# Altium schematic symbol library SX126xMB2xAS_e588v01a.SchLib: 36 symbols
Pins are listed as number, name and electrical type; pins without a type are passive.

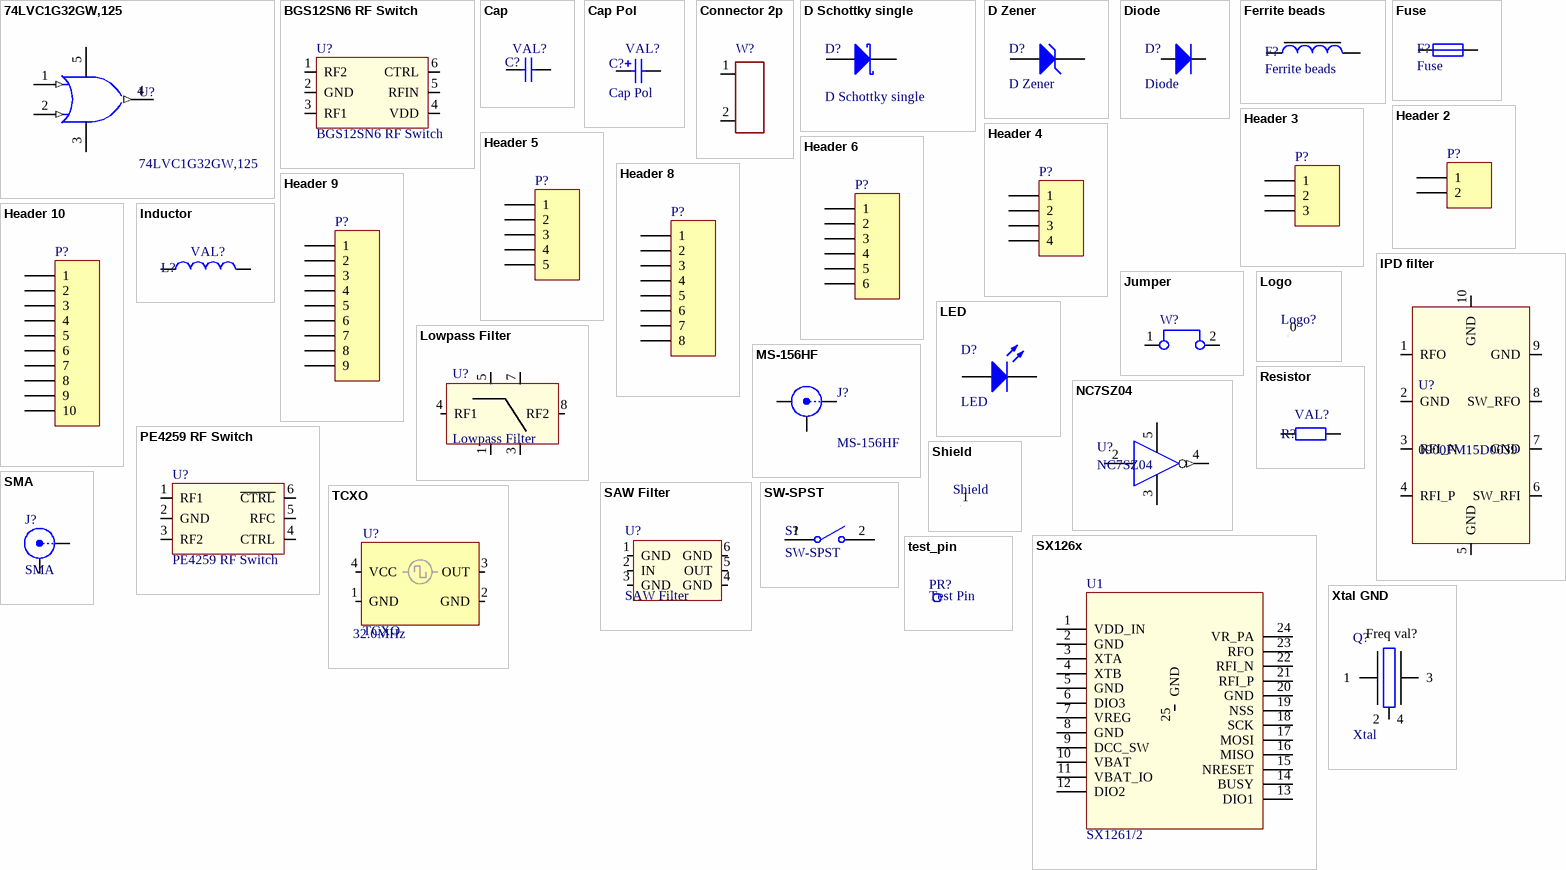
[diagram p0: symbols 74LVC1G32GW,125 to Xtal GND]

## 74LVC1G32GW,125
designator U?
T2-Input OR Gate, 5-Pin; Published: 17-Jul-2002; Publisher: Altium Limited
footprint SOT353-5 (SOT353, 5-Leads, Body 2x1.3mm, Pitch 0.65mm, Lead Span 2.1mm, IPC Medium Density)
pins: 1 B (in), 2 A (in), 3 GND (power), 4 Y (out), 5 VCC (power)

## BGS12SN6 RF Switch
designator U?
BGS12SN6 Infineon RF Switch; LatestRevisionDate: 03-Sep-2012 -  Semtech
footprint TSNP-6-2 (TSNP-6-2; Body 1.1 x 0.7 mm (LxW typ))
pins: 1 RF2, 2 GND, 3 RF1, 4 VDD (power), 5 RFIN, 6 CTRL

## Cap
designator C?  value VAL?  (hidden comment: Cap)
Capacitor SMD; Published: 8-Jun-2000; LatestRevisionDate: 05-oct-2007  -  Semtech; LatestRevisionNote: Re-released for DXP Platform.; Publisher: Altium Limited
simulation model CAP (Semiconductor Capacitor)
signal-integrity model Cap Semi
footprint rlc_402_smd (Chip SMD component 402; Body 1.0 x 0.5 mm (LxW typ))
footprint rlc_603_smd (Chip SMD component 603; Body 1.6 x 0.8mm (LxW typ))
footprint rlc_805_smd (Chip SMD component 805; Body 2.0 x 1.25 mm (LxW typ))
footprint rlc_1206_smd (Chip SMD component 1206; Body 3.2 x 1.6 mm (LxW typ))
footprint rlc_201_smd (Chip SMD component 201; Body 0.6 x 0.3 mm (LxW typ))
footprint rlc_805_smd_small (Chip SMD component 805; Body 2.0 x 1.25 mm (LxW typ); small footprint)
footprint rlc_201_smd_small (Chip SMD component 201; Body 0.6 x 0.3 mm (LxW typ); small footprint)
footprint rlc_402_smd_small (Chip SMD component 402; Body 1.0 x 0.5 mm (LxW typ);small footprint)
footprint rlc_603_smd_small (Chip SMD component 603; Body 1.6 x 0.8mm (LxW typ); small footprint)
pins: 1, 2

## Cap Pol
designator C?  value VAL?
Polarized Capacitor (Surface Mount); Published: 8-Jun-2000; LatestRevisionDate: 05-oct-2007  -  Semtech; LatestRevisionNote: Re-released for DXP Platform.; Publisher: Altium Limited
simulation model CAP (Capacitor)
signal-integrity model Cap Pol
footprint rlc_1210_smd (Chip SMD component 1210; Body 3.2 x 2.5 mm (LxW typ))
footprint rlc_1812_smd (Chip SMD component 1812; Body 4.5 x 3.2 mm (LxW typ))
footprint rlc_2225_smd (Chip SMD component 2225; Body 5.6 x 6.4 mm (LxW typ))
footprint CD3216-1206 (Chip Diode; Body 3.2 x 1.6 mm (LxW typ))
footprint CD2012-0805 (Chip Diode; Body 2.0 x 1.3 mm (LxW typ))
footprint rlc_1206_smd capa pol (Chip SMD component 1206; Body 3.2 x 1.6 mm (LxW typ))
pins: 1, 2
1 alternate drawing of the same symbol

## Connector 2p
designator W?  (value not drawn)
2pins Connector
footprint Connector 2p 2_54mm (Generic connector 2.54mm, 2 Leads 1mm;)
pins: 1, 2

## D Schottky single
designator D?
Schottky Diode
footprint SOD123 (SOD123; Chip Diode; Body  2.7 x 1.6 mm (LxW typ))
pins: 1 A, 2 K

## D Zener
designator D?
Zener Diode; Published: 8-Jun-2000; LatestRevisionDate: 05-oct-2007  -  Semtech; LatestRevisionNote: Re-released for DXP Platform.; Publisher: Altium Limited
footprint CD1608-0603 (Chip Diode; Body 1.6 x 0.8 mm (LxW typ))
footprint CD2012-0805 (Chip Diode; Body 2.0 x 1.3 mm (LxW typ))
pins: 1 A, 2 K

## Diode
designator D?
Protection Diode; Published: 8-Jun-2000; LatestRevisionDate: 17-Jul-2002; LatestRevisionNote: Re-released for DXP Platform.; PackageDocument: Sep-1996; PackageReference: SMC; Publisher: Altium Limited; Code_JEDEC: 05-oct-2007  -  Semtech
footprint CD1005-0402 (Chip Diode; Body 1.0 x 0.5 mm (LxW typ))
footprint CD1608-0603 (Chip Diode; Body 1.6 x 0.8 mm (LxW typ))
footprint CD2012-0805 (Chip Diode; Body 2.0 x 1.3 mm (LxW typ))
footprint CD3216-1206 (Chip Diode; Body 3.2 x 1.6 mm (LxW typ))
footprint PowerDI 123 (Chip Diode; PowerDI 123)
footprint DO214-AA (Chip Diode; Body 4.3 x3.6mm (LxW typ))
pins: 1 A, 2 K

## Ferrite beads
designator F?
Value: VAL?
footprint rlc_1206_smd (Chip SMD component 1206; Body 3.2 x 1.6 mm (LxW typ))
footprint rlc_805_smd (Chip SMD component 805; Body 2.0 x 1.25 mm (LxW typ))
footprint rlc_603_smd (Chip SMD component 603; Body 1.6 x 0.8mm (LxW typ))
footprint rlc_402_smd (Chip SMD component 402; Body 1.0 x 0.5 mm (LxW typ))
pins: 1, 2

## Fuse
designator F?
Published: 8-Jun-2000; LatestRevisionDate: 05-oct-2007  -  Semtech; LatestRevisionNote: Re-released for DXP Platform.; Publisher: Altium Limited
simulation model FUSE (Spice Subcircuit)
footprint rlc_1206_smd (Chip SMD component 1206; Body 3.2 x 1.6 mm (LxW typ))
footprint rlc_805_smd (Chip SMD component 805; Body 2.0 x 1.25 mm (LxW typ))
footprint rlc_603_smd (Chip SMD component 603; Body 1.6 x 0.8mm (LxW typ))
footprint rlc_402_smd (Chip SMD component 402; Body 1.0 x 0.5 mm (LxW typ))
pins: 1, 2

## Header 2
designator P?
Header, 2-Pin; LatestRevisionDate: 17-Jul-2002; LatestRevisionNote: Re-released for DXP Platform.; Publisher: Altium Limited
footprint HDR1X2 (Connector; Header; 2 Position)
signal-integrity model Connector
pins: 1, 2

## Header 3
designator P?
Header, 3-Pin; LatestRevisionDate: 17-Jul-2002; LatestRevisionNote: Re-released for DXP Platform.; Publisher: Altium Limited
footprint HDR1X3 (Connector; Header; 3 Position)
signal-integrity model Connector
pins: 1, 2, 3

## Header 4
designator P?
Header, 4-Pin; LatestRevisionDate: 17-Jul-2002; LatestRevisionNote: Re-released for DXP Platform.; Publisher: Altium Limited
footprint HDR1X4 (Connector; Header; 4 Position)
signal-integrity model Connector
footprint 1125S-4P_connector (Connector; Header; 4 Position; P/N: 1125S-4P; Manuf: TAIFENG)
pins: 1, 2, 3, 4

## Header 5
designator P?
Header, 5-Pin; LatestRevisionDate: 17-Jul-2002; LatestRevisionNote: Re-released for DXP Platform.; Publisher: Altium Limited
footprint HDR1X5 (Connector; Header; 5 Position)
signal-integrity model Connector
pins: 1, 2, 3, 4, 5

## Header 6
designator P?
Header, 6-Pin; LatestRevisionDate: 17-Jul-2002; LatestRevisionNote: Re-released for DXP Platform.; Publisher: Altium Limited
footprint HDR1X6 (Connector; Header; 6 Position)
signal-integrity model Connector
pins: 1, 2, 3, 4, 5, 6

## Header 8
designator P?
Header, 8-Pin; LatestRevisionDate: 17-Jul-2002; LatestRevisionNote: Re-released for DXP Platform.; Publisher: Altium Limited
footprint HDR1X8 (Connector; Header; 8 Position)
signal-integrity model Connector
pins: 1, 2, 3, 4, 5, 6, 7, 8

## Header 9
designator P?
Header, 9-Pin; LatestRevisionDate: 17-Jul-2002; LatestRevisionNote: Re-released for DXP Platform.; Publisher: Altium Limited
footprint HDR1X9 (Connector; Header; 9 Position)
signal-integrity model Connector
pins: 1, 2, 3, 4, 5, 6, 7, 8, 9

## Header 10
designator P?
Header, 10-Pin; LatestRevisionDate: 17-Jul-2002; LatestRevisionNote: Re-released for DXP Platform.; Publisher: Altium Limited
footprint HDR1X10 (Connector; Header; 10 Position)
signal-integrity model Connector
footprint HDR1X10_TFT_Display (Connector; Header; 10 Position; Adafruit TFT Display)
pins: 1, 2, 3, 4, 5, 6, 7, 8, 9, 10

## Inductor
designator L?  value VAL?  (hidden comment: Inductor)
Inductor SMD; Code_IEC: 1005; Published: 8-Jun-2000; LatestRevisionDate: 05-oct-2007  -  Semtech; LatestRevisionNote: Re-released for DXP Platform.; Publisher: Altium Limited; Code_JEITA: 0402
simulation model INDUCTOR (Inductor)
signal-integrity model Inductor
footprint rlc_402_smd (Chip SMD component 402; Body 1.0 x 0.5 mm (LxW typ))
footprint rlc_201_smd (Chip SMD component 201; Body 0.6 x 0.3 mm (LxW typ))
footprint rlc_603_smd (Chip SMD component 603; Body 1.6 x 0.8mm (LxW typ))
footprint rlc_805_smd (Chip SMD component 805; Body 2.0 x 1.25 mm (LxW typ))
footprint rlc_1206_smd (Chip SMD component 1206; Body 3.2 x 1.6 mm (LxW typ))
footprint rlc_1210_smd (Chip SMD component 1210; Body 3.2 x 2.5 mm (LxW typ))
footprint rlc_1812_smd (Chip SMD component 1812; Body 4.5 x 3.2 mm (LxW typ))
footprint L2813
footprint L4818
footprint rlc_201_smd_small (Chip SMD component 201; Body 0.6 x 0.3 mm (LxW typ); small footprint)
footprint rlc_402_smd_small (Chip SMD component 402; Body 1.0 x 0.5 mm (LxW typ);small footprint)
footprint rlc_603_smd_small (Chip SMD component 603; Body 1.6 x 0.8mm (LxW typ); small footprint)
footprint rlc_805_smd_small (Chip SMD component 805; Body 2.0 x 1.25 mm (LxW typ); small footprint)
pins: 1, 2

## IPD filter
designator U?, comment 0900FM15D0039
0900FM15D0039 - Johanson IPD Filter for SX1261, SX1262; LatestRevisionDate: 05-oct-2007  -  Semtech
footprint IPD Filter (IPD Filter; Johanson; Body 2.00 x 1.25 mm (LxW max))
pins: 1 RFO, 2 GND (power), 3 RFI_N, 4 RFI_P, 5 GND (power), 6 SW_RFI, 7 GND (power), 8 SW_RFO, 9 GND (power), 10 GND (power)

## Jumper
designator W?  (value not drawn)
Jumper Wire; LatestRevisionDate: 05-oct-2007  -  Semtech
footprint bridge_254mm (Generic Bridge 2.54mm, 2 Leads 1mm;)
footprint bridge_508mm (Generic Bridge 5.08mm, 2 Leads 1mm;)
pins: 1, 2

## LED
designator D?
LatestRevisionDate: 05-oct-2007  -  Semtech
footprint CD1005-0402 (Chip Diode; Body 1.0 x 0.5 mm (LxW typ))
footprint CD1608-0603 (Chip Diode; Body 1.6 x 0.8 mm (LxW typ))
footprint CD2012-0805 (Chip Diode; Body 2.0 x 1.3 mm (LxW typ))
footprint Reverse LED 3216 - 1206-hole round (Reverse Package Chip LED; Body 3.2 x 1.6 mm (LxW typ))
footprint Reverse LED 3216 - 1206 - hole slot (Reverse Package Chip LED; Body 3.2 x 1.6 mm (LxW typ))
pins: 1 A, 2 K

## Logo
designator Logo?, comment Logo symbol  (value not drawn)
Schematic symbol for Logo
footprint logo_semtech_horiz_size1 (Logo semtech horizontal - size1 - S)
footprint logo_semtech_horiz_size2 (Logo semtech horizontal - size2 - M)
footprint logo_semtech_horiz_size3 (Logo semtech horizontal - size3 - L)
footprint logo_semtech_horiz_size4 (Logo semtech horizontal - size4 - XL)
footprint Logo DC Supply (Logo for DC Supply)
footprint Logo LoRa Size1
footprint Logo LoRa Size2
footprint Logo LoRa Size3
footprint Logo LoRa Size4 (Logo LoRa Size4 - Top Overlay)
footprint Logo CE
footprint logo mbed 1
footprint logo mbed 2
footprint Logo Recycling1
footprint Logo Recycling2
footprint logo_semtech_S (Logo semtech S size4 - XL)
footprint Logo ESD
pins: 0 "Logo"

## Lowpass Filter
designator U?
RF Filter - Lowpass; LatestRevisionDate: 05-oct-2007  -  Semtech
footprint LP Filter Johanson (Low Pass Filter ; Body 2.00 x 1.25 mm (LxW max))
pins: 1 GND, 3 GND, 4 RF1, 5 GND, 7 GND, 8 RF2

## MS-156HF
designator J?
MS-156HF Hirose RF Connector; LatestRevisionDate: 15-June-2016  -  Semtech; LatestRevisionNote: Re-released for DXP Platform.; Publisher: Altium Limited
footprint MS-156HF Hirose (Hirose MS-156HF receptacle - MS-156HF)
pins: 1 Signal "RF signal1", 2 Signal "RF signal2", 3 GND (power) "Ground signal", 4 GND (power) "Ground signal"

## NC7SZ04
designator U?
NC7SZ04 - TinyLogic HS Single Inverter - Fairchild Semi
footprint SOT23-5 (SOT23, 5-Leads, Body 2.9x1.6mm, Pitch 0.95mm, Lead Span 2.8mm, IPC Medium Density)
footprint SC70-5 (SC70 5-Leads, Body 2.0x1.25mm, Pitch 0.65mm)
pins: 2 A, 3 GND (power), 4 Y (out), 5 VCC (power)

## PE4259 RF Switch
designator U?
PE4259 Peregrine RF Switch; LatestRevisionDate: 03-Sep-2012 -  Semtech
footprint SC70-6 (SC70 6-Leads, Body 2.0x1.25mm, Pitch 0.65mm)
pins: 1 RF1, 2 GND, 3 RF2, 4 CTRL, 5 RFC, 6 ~{CTRL}

## Resistor
designator R?  value VAL?  (hidden comment: Resistor)
Resistor SMD - IEC symbol version; LatestRevisionDate: 27-Jul-20  -  Semtech
footprint rlc_201_smd (Chip SMD component 201; Body 0.6 x 0.3 mm (LxW typ))
footprint rlc_402_smd (Chip SMD component 402; Body 1.0 x 0.5 mm (LxW typ))
footprint rlc_603_smd (Chip SMD component 603; Body 1.6 x 0.8mm (LxW typ))
footprint rlc_805_smd (Chip SMD component 805; Body 2.0 x 1.25 mm (LxW typ))
footprint rlc_1206_smd (Chip SMD component 1206; Body 3.2 x 1.6 mm (LxW typ))
pins: 1, 2

## SAW Filter
designator U?
SAW Filter - Bandpass - TEMEX type; LatestRevisionDate: 05-oct-2007  -  Semtech
footprint sc44_3.8x3.8mm (sc44 footprint, 3.8x3.8mm)
footprint DCC6C_3.0x3.0mm (DCC6C footprint, 3.0x3.0mm)
pins: 1 GND, 2 IN, 3 GND, 4 GND, 5 OUT, 6 GND

## Shield
designator Shield, comment Logo symbol  (value not drawn)
Shield - EMI Gasket - Standard Surface Mount Shields
footprint BMIS-209-F - Shield (BMIS-209-F EMI Gasket - modif SolderMask - Standard Surface Mount Shields -  Laird Technologies)
pins: 1 "Shield"

## SMA
designator J?
SMA Straight Connector; LatestRevisionDate: 05-oct-2007  -  Semtech; LatestRevisionNote: Re-released for DXP Platform.; Publisher: Altium Limited
footprint SMA END LAUNCH JACK RECEPTACLE (SMA Connector - End Launch Jack Receptacle)
footprint SMA_end_launch_1.0mm_9.52mm (SMA end launch for 1.0mm PCB thickness; 9.52mm)
footprint SMA END LAUNCH JACK RECEPTACLE SHORT (SMA Connector - End Launch Jack Receptacle - Short)
pins: 1 Signal "RF signal", 2 GND "Ground signal"

## SW-SPST
designator S?
Single-Pole, Single-Throw Switch; Published: 24-Mar-1999; LatestRevisionDate: 05-oct-2007  -  Semtech; LatestRevisionNote: Re-released for DXP Platform.; Publisher: Altium Limited
pins: 1 COMMON, 2 NO

## SX126x
designator U1, comment SX1261/2
SX1261/2 - Ultra low power RF transceiver
footprint vqfn24_4x4mm (24 Leads, Body 4.0x4.0mm, Pitch 0.50mm, VQFN24)
footprint vqfn24_4x4mm (24 Leads, Body 4.0x4.0mm, Pitch 0.50mm, VQFN24)
pins: 1 VDD_IN (power), 2 GND, 3 XTA, 4 XTB, 5 GND, 6 DIO3, 7 VREG (power), 8 GND, 9 DCC_SW (power), 10 VBAT (power), 11 VBAT_IO (power), 12 DIO2, 13 DIO1, 14 BUSY, 15 NRESET, 16 MISO, 17 MOSI, 18 SCK, 19 NSS, 20 GND, 21 RFI_P, 22 RFI_N, 23 RFO, 24 VR_PA (power), 25 GND

## TCXO
designator U?  value 32.0MHz
footprint IT3200C TCXO (SMD 3.2x2.5mm for IT3200C TCXO)
footprint TCXO 3.2x2.5mm (SMD 3.2x2.5mm for TCXO or VCTCXO)
footprint TCXO 3.2x2.5mm_2.0x1.6mm (SMD 3.2x2.5mm & 2.0x1.6mm compatible for TCXO or VCTCXO)
footprint TCXO 2.0x1.6mm (SMD 2.0x1.6mm for TCXO or VCTCXO)
pins: 1 GND, 2 GND, 3 OUT, 4 VCC

## test_pin
designator PR?, comment Test Pin
LatestRevisionDate: 05-oct-2007  -  Semtech
footprint pin_1mm (Generic Pin 1.1mm; 1 Lead)
footprint pin_1.1mm (Generic Pin 1.1mm; 1 Lead)
footprint pin_SMD (Generic Pin; 1 pin SMD)
pins: 1 pin  "Test Pin"

## Xtal GND
designator Q?, comment Xtal  value Freq val?
Crystal with GND pins; 4 pins; LatestRevisionDate: 17-04-2014  -  Semtech
footprint nd2520da (Crystal SMD 2.5x2.0mm)
footprint nd2016da (Crystal SMD 2.0x1.6mm)
footprint nd3225da (Crystal SMD 3.2x2.5mm)
footprint nd5032da (Crystal SMD 5.0x3.2mm)
footprint nd6035da (Crystal SMD 6.0x3.5mm)
footprint nd7050da - enlarge (Crystal SMD 7.0x5.0mm - Enlarge Pads to be compatible with 3.2x2.5mm footprint)
footprint nd3225da - nd2520da (Crystal SMD 3.2x2.5mm compatible with 2.5x2.0mm)
pins: 1, 2, 3, 4